# Altium schematic symbol library 0530470610.SchLib: 1 symbol
Pins are listed as number, name and electrical type; pins without a type are passive.

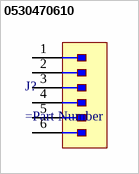
[diagram p0: symbol 0530470610]

## 0530470610
designator J?
=Description; ComponentLink1Description: Datasheet
pins: 1, 2, 3, 4, 5, 6